# Altium integrated library 500SSP1S1M2REA.IntLib: 1 symbol
Pins are listed as number, name and electrical type; pins without a type are passive.

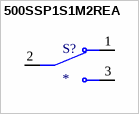
[diagram p0: symbol 500SSP1S1M2REA]

## 500SSP1S1M2REA
designator S?
Slide Switch SPDT Through Hole  <a href="https://pricing.snapeda.com/parts/500SSP1S1M2REA/E-Switch/view-part?ref=eda">Check availability</a> <a href="https://pricing.snapeda.com/parts/500SSP1S1M2REA/E-Switch/view-part?ref=eda">Check availability</a>; Value: *; MP: 500SSP1S1M2REA; Availability: Unavailable; Package: None; Price: None
footprint SW_500SSP1S1M2REA
pins: 1 NC, 2 COM, 3 NO